# Altium schematic symbol library Diode.SchLib: 50 symbols
Pins are listed as number, name and electrical type; pins without a type are passive.

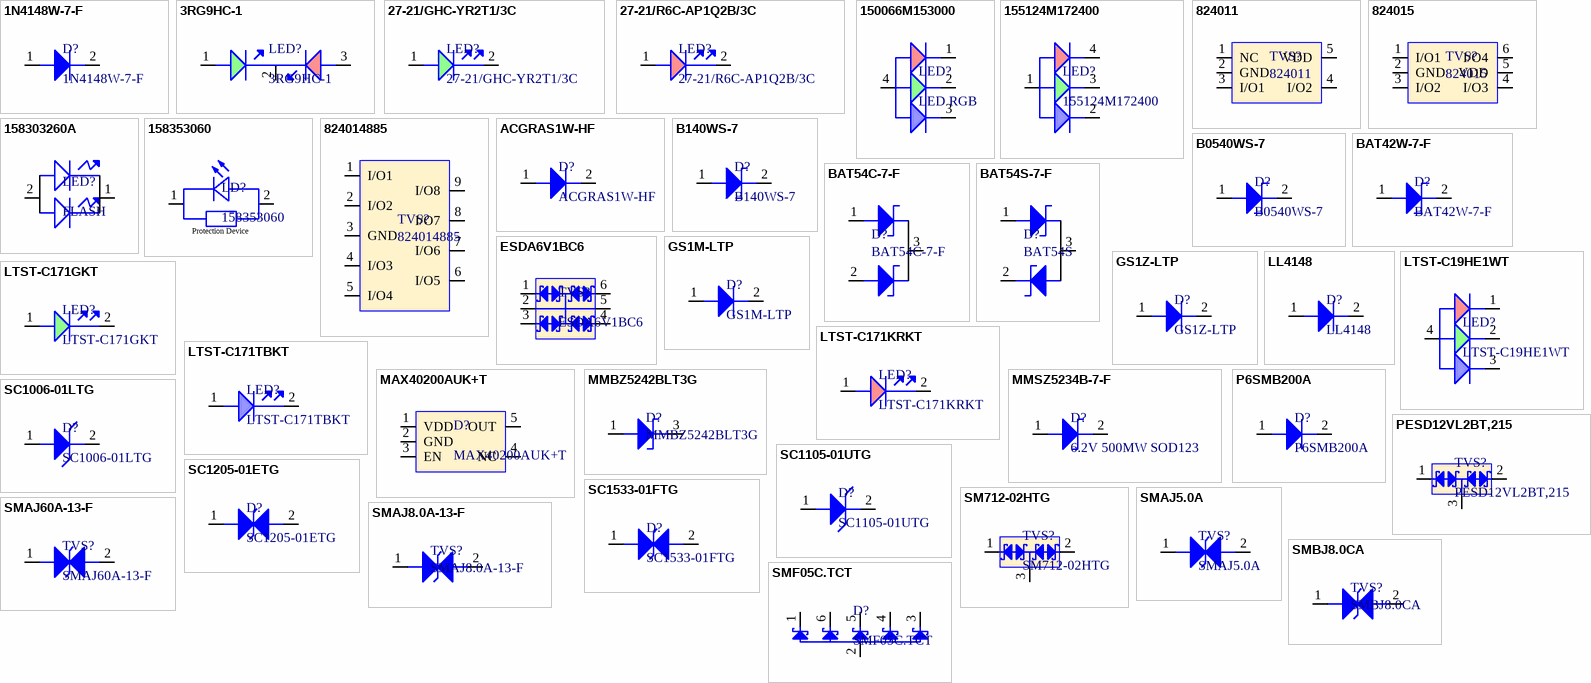
[diagram p0: symbols 1N4148W-7-F to SMF05C.TCT]

## 1N4148W-7-F
designator D?
Small Signal Diode, Single, 100 V, 300 Ma, 1.25 V, 4 Ns, 2 A Rohs Compliant: Yes; Manufacturer: Diodes; Purpose Of Usage: BASIC; Supplier 1: Digi-Key; Manufacturer Part Number: 1N4148W-7-F; RoHS: YES; Mount: SMD; Min Operating Temperature: -65°C; Max Operating Temperature: 150°C; Element Configuration: Single; Supplier Part Number 1: 1N4148W-FDIDKR-ND; Category: DIODE; Case/Package: SOT-123; Sub-Category: FAST DIODE; Stock ID: ??
footprint SOD123
pins: 1 A, 2 K

## 3RG9HC-1
designator LED?
LED 3MM RED, GREEN R:30mcd, G:60mcd 40°; Manufacturer: STRONG BASE; Purpose Of Usage: BASIC; Category: DIODE; Supplier 1: Özdisan; Supplier Part Number 1: 3RG9HC-1; Case/Package: THT; Mount: SMD; Sub-Category: LED; Stock ID: ??
footprint 3RG9HC-1
pins: 1, 2, 3

## 27-21/GHC-YR2T1/3C
designator LED?
LED GREEN RIGHT ANGLE CLEAR CHIP SMD; Manufacturer: Everlight Electronics Co Ltd; Purpose Of Usage: BASIC; Supplier 1: Digi-Key; Supplier Part Number 1: 27-21/GHC-YR2T1/3C-ND; Manufacturer Part Number: 27-21/GHC-YR2T1/3C; Mount: SMD; Case/Package: 0603; Category: DIODE; Sub-Category: LED; Stock ID: ??
footprint 0603_GREEN
pins: 1, 2

## 27-21/R6C-AP1Q2B/3C
designator LED?
LED RED RIGHT ANGLE CLEAR CHIP SMD; Manufacturer: Everlight Electronics Co Ltd; Purpose Of Usage: BASIC; Supplier 1: Digi-Key; Manufacturer Part Number: 27-21/R6C-AP1Q2B/3C; Mount: SMD; Case/Package: 0603; Category: DIODE; Sub-Category: LED; Stock ID: ??
footprint 0603_RED
pins: 1, 2

## 150066M153000
designator LED?, comment LED RGB
Led, Red/grn/blue, 285/900/180Mcd, 0606 Rohs Compliant: Yes; Manufacturer: Wurth Electronics; Manufacturer Part Number: 150066M153000; Color: Blue,Green,Red; Element Configuration: Common Anode; Purpose Of Usage: BASIC; Supplier 1: Digi-Key; RoHS: YES; Category: DIODE; Case/Package: 0606; Supplier Part Number 1: 732-11390-2-ND; Mount: SMD; Stock ID: ??; Sub-Category: LED; Local Supplier: WURTH; Price 10K: 0.084
footprint WL-SFCD_0606 (SMD Full-color Chip LED Diffused, body 1.6x1.6mm)
pins: 1, 2, 3, 4

## 155124M172400
designator LED?
Wl-sfsw SMT Full-color Side View; Manufacturer: Wurth Electronics; Color: Blue,Green,Red; Purpose Of Usage: BASIC; Supplier 1: Digi-Key; Manufacturer Part Number: 155124M172400; RoHS: YES; Category: DIODE; Supplier Part Number 1: 732-155124M172400TR-ND; Case/Package: 1204; Mount: SMD; Stock ID: ??; Sub-Category: LED; Local Supplier: WURTH; Price 10K: 0.084
footprint WL-SFSW_1204_155124M172400 (SMD Full-color Side view Waterclear, body 3.20 x 1.50mm)
pins: 1, 2, 3, 4

## 824011
designator TVS?
WURTH ELEKTRONIK - 824011 - TVS Diode, 82401 Series, Bidirectional, 5 V, 13 V, SOT-23, 5 Pins; Manufacturer: Wurth Electronics; Direction: UNI; Clamping Voltage: 8.5V; Purpose Of Usage: BASIC; Supplier 1: Digi-Key; Supplier Part Number 1: 732-4465-1-ND; Manufacturer Part Number: 824011; RoHS: YES; Mount: SMD; Case/Package: SOT-23-5; Min Operating Temperature: -55°C; Max Operating Temperature: 125°C; Category: DIODE; Sub-Category: TVS; Stock ID: ??
footprint WE-TVS_SOT23-5L (TVS Diode, package SOT23-5L)
pins: 1 NC, 2 GND, 3 I/O1, 4 I/O2, 5 VDD

## 824015
designator TVS?
WURTH ELEKTRONIK - 824015 - TVS Diode, 82401 Series, Bidirectional, 5 V, 13 V, SOT-23, 6 Pins; Manufacturer: Wurth Electronics; Direction: UNI; Clamping Voltage: 7.8V; Purpose Of Usage: BASIC; Supplier 1: Digi-Key; Supplier Part Number 1: 732-4467-1-ND; Manufacturer Part Number: 824015; RoHS: YES; Mount: SMD; Case/Package: SOT-23-6; Min Operating Temperature: -55°C; Max Operating Temperature: 125°C; Category: DIODE; Sub-Category: TVS; Stock ID: ??
footprint SOT-23-6
pins: 1 I/O1, 2 GND, 3 I/O2, 4 I/O3, 5 VDD, 6 I/O4

## 158303260A
designator LED?, comment FLASH
Led, Hb, Cool White, 6000K, 36Lm Rohs Compliant: Yes; Manufacturer: Wurth Electronics; Manufacturer Part Number: 158303260A; Purpose Of Usage: BASIC; Supplier 1: Digi-Key; RoHS: YES; Supplier Part Number 1: 732-158303260ADKR-ND; Category: DIODE; Color: White; Mount: SMD; Stock ID: ??; Sub-Category: LED
footprint WL-SWTP_3030_L3W3H0.67 (SMD White Top view PLCC, body 3x3mm)
pins: 1, 2

## 158353060
designator LD?
High Brightness Led, Wl-Swtc Series, White, 6000 K, 121 Lm, 350 Ma, 700 Ma Rohs Compliant: Yes; Manufacturer: Wurth Electronics; Purpose Of Usage: BASIC; Supplier 1: Digi-Key; Manufacturer Part Number: 158353060; RoHS: YES; Case/Package: SMD/SMT; Color: White; Supplier Part Number 1: 732-5657-1-ND; Category: DIODE; Mount: SMD; Stock ID: ??; Sub-Category: LED
footprint WL-SWTC_3535 (SMD White Top view Ceramic LED, body 3.4x3.4mm)
pins: 1 K, 2 A
text: Protection Device

## 824014885
designator TVS?
TVS DIODE 5V 10.5V DFN3810-9; Manufacturer: Wurth Electronics; Purpose Of Usage: BASIC; Supplier 1: Digi-Key; Supplier Part Number 1: 732-11797-1-ND; Manufacturer Part Number: 824014885; RoHS: NO; Category: DIODE; Case/Package: DFN3810-9L; Mount: SMD; Sub-Category: TVS; Stock ID: ??
footprint WE-TVS_DFN3810-9L (TVS Diode, package DFN3810-9L)
pins: 1 I/O1, 2 I/O2, 3 GND, 4 I/O3, 5 I/O4, 6 I/O5, 7 I/O6, 8 I/O7, 9 I/O8

## ACGRAS1W-HF
designator D?
DIODE GEN PURP 1.6KV 1A DO214AC; Manufacturer: Comchip; Purpose Of Usage: BASIC; Supplier 1: Digi-Key; Supplier Part Number 1: 641-1882-1-ND; Manufacturer Part Number: ACGRAS1W-HF; RoHS: NO; Category: DIODE; Case/Package: SMA; Mount: SMD; Sub-Category: RECTIFIER; Stock ID: ??
footprint SMA/DO-214AC
pins: 1, 2

## B140WS-7
designator D?
VR=40V IF=1A 125pF P=235mW; Manufacturer: Diodes; Element Configuration: Single; Purpose Of Usage: BASIC; Supplier 1: Digi-Key; Manufacturer Part Number: B140WS-7; RoHS: YES; Category: DIODE; Min Operating Temperature: -40°C; Max Operating Temperature: 125°C; Supplier Part Number 1: B140WS-7DITR-ND; Case/Package: SOD-323; Mount: SMD; Stock ID: ??; Sub-Category: SCHOTTKY
footprint SOD323
pins: 1 A, 2 K

## B0540WS-7
designator D?
VR=40V IF=500mA 125pF P=235mW; Manufacturer: Diodes; Element Configuration: Single; Purpose Of Usage: BASIC; Supplier 1: Digi-Key; Manufacturer Part Number: B0540WS-7; RoHS: YES; Category: DIODE; Min Operating Temperature: -40°C; Max Operating Temperature: 125°C; Supplier Part Number 1: B0540WSDITR-ND; Case/Package: SOD-323; Mount: SMD; Stock ID: ??; Sub-Category: SCHOTTKY
footprint SOD323
pins: 1 A, 2 K

## BAT42W-7-F
designator D?
BAT42W Series 30 V 0.2 A Surface Mount Schottky Barrier Diode - SOD-123; Manufacturer: Diodes; Element Configuration: Single; Purpose Of Usage: BASIC; Supplier 1: Digi-Key; Manufacturer Part Number: BAT42W-7-F; RoHS: YES; Mount: SMD; Min Operating Temperature: -55°C; Max Operating Temperature: 125°C; Category: DIODE; Supplier Part Number 1: BAT42W-FDICT-ND; Case/Package: SMA; Sub-Category: SCHOTTKY; Stock ID: ??
footprint SOD123
pins: 1 A, 2 K

## BAT54C-7-F
designator D?
Diodes Inc BAT54C-7-F, Dual SMT Schottky Switching Diode, Common Cathode, 30V 200mA, 5ns, 3-Pin SOT-23; Purpose Of Usage: BASIC; Supplier 1: Digi-Key; Supplier Part Number 1: BAT54C-FDICT-ND; Manufacturer: Diodes; Manufacturer Part Number: BAT54C-7-F; RoHS: YES; Mount: SMD; Case/Package: SOT-23-3; Min Operating Temperature: -65°C; Max Operating Temperature: 150°C; Element Configuration: Common Cathode; Category: DIODE; Sub-Category: SCHOTTKY; Stock ID: ??
footprint SOT23-3 (SOT23, 3-Leads, Body 2.92x2.51mm, Pitch 0.95mm, IPC Medium Density)
pins: 1 A, 2 K, 3 K

## BAT54S-7-F
designator D?, comment BAT54S
DIODE ARRAY SCHOTTKY 30V SOT23-3; Manufacturer: Diodes; Manufacturer Part Number: BAT54S-7-F; Purpose Of Usage: BASIC; Supplier 1: Digi-Key; RoHS: YES; Mount: SMD; Case/Package: SOT-23-3; Min Operating Temperature: -65°C; Max Operating Temperature: 150°C; Category: DIODE; Supplier Part Number 1: BAT54S-FDICT-ND; Sub-Category: SCHOTTKY; Stock ID: ??
footprint SOT23-3 (SOT23, 3-Leads, Body 2.92x2.51mm, Pitch 0.95mm, IPC Medium Density)
pins: 1 A, 2 K, 3 K

## ESDA6V1BC6
designator TVS?
TVS DIODE 5V SOT23-6; Manufacturer: STMicroelectronics; Direction: BI; Clamping Voltage: 11.35V; Purpose Of Usage: BASIC; Supplier 1: Digi-Key; Supplier Part Number 1: 497-6635-1-ND; Manufacturer Part Number: ESDA6V1BC6; RoHS: YES; Mount: SMD; Case/Package: SOT-23-6; Min Operating Temperature: -40°C; Max Operating Temperature: 125°C; Category: DIODE; Sub-Category: TVS; Stock ID: ??
footprint SOT-23-6
pins: 1, 2, 3, 4, 5, 6

## GS1M-LTP
designator D?
DIODE GEN PURP 1KV 1A DO214AC; Manufacturer: MCC; Element Configuration: Single; Purpose Of Usage: BASIC; Supplier 1: Digi-Key; Supplier Part Number 1: GS1M-LTPMSCT-ND; Manufacturer Part Number: GS1M-LTP; RoHS: YES; Mount: SMD; Min Operating Temperature: -55°C; Max Operating Temperature: 150°C; Category: DIODE; Case/Package: SMA; Sub-Category: RECTIFIER; Stock ID: ??
footprint SMA/DO-214AC
pins: 1 A, 2 K

## GS1Z-LTP
designator D?
DIODE GEN PURP 2KV 1A DO214AC; Manufacturer: MCC; Purpose Of Usage: BASIC; Supplier 1: Digi-Key; Manufacturer Part Number: GS1Z-LTP; RoHS: NO; Supplier Part Number 1: GS1Z-LTPCT-ND; Category: DIODE; Case/Package: SMA; Mount: SMD; Sub-Category: RECTIFIER; Stock ID: ??
footprint SMA/DO-214AC
pins: 1 A, 2 K

## LL4148
designator D?
DIODE GEN PURP 100V 200MA SOD80; Manufacturer: ON Semiconductor / Fairchild; Element Configuration: Single; Purpose Of Usage: BASIC; Supplier 1: Digi-Key; Supplier Part Number 1: LL4148FSCT-ND; Manufacturer Part Number: LL4148; RoHS: YES; Mount: SMD; Min Operating Temperature: -65°C; Max Operating Temperature: 175°C; Category: DIODE; Case/Package: SOD-80; Sub-Category: FAST DIODE; Stock ID: ??
footprint SOD80
pins: 1 A, 2 K

## LTST-C19HE1WT
designator LED?
LED, SMD, 1.6x1.5x0.4mm, Red/Green/Blue; Manufacturer: Vishay Lite-On; Color: Blue,Green,Red; Element Configuration: RGB; Purpose Of Usage: BASIC; Manufacturer Part Number: LTST-C19HE1WT; RoHS: YES; Category: DIODE; Case/Package: 0606; Min Operating Temperature: -20°C; Max Operating Temperature: 80°C; Local Supplier: OZDISAN; Mount: SMD; Price 10K: 0.09; Stock ID: ??; Sub-Category: LED; Supplier 1: Digi-Key; Supplier Part Number 1: 160-2162-1-ND
footprint WL-SFCD_0606 (SMD Full-color Chip LED Diffused, body 1.6x1.6mm)
pins: 1, 2, 3, 4

## LTST-C171GKT
designator LED?
LED GREEN CLEAR CHIP SMD; Manufacturer: Vishay Lite-On; Purpose Of Usage: BASIC; Supplier 1: Digi-Key; Supplier Part Number 1: 160-1423-1-ND; Manufacturer Part Number: LTST-C171GKT; RoHS: YES; Mount: SMD; Case/Package: 0805; Color: Green; Min Operating Temperature: -55°C; Max Operating Temperature: 85°C; Category: DIODE; Sub-Category: LED; Stock ID: ??
footprint 0805_green
pins: 1, 2

## LTST-C171KRKT
designator LED?
LED RED CLEAR SMD; Manufacturer: Vishay Lite-On; Purpose Of Usage: BASIC; Supplier 1: Digi-Key; Supplier Part Number 1: 160-1427-1-ND; Manufacturer Part Number: LTST-C171KRKT; RoHS: YES; Mount: SMD; Case/Package: 0805; Color: Red; Min Operating Temperature: -55°C; Max Operating Temperature: 85°C; Category: DIODE; Sub-Category: LED; Stock ID: ??
footprint 0805_RED
pins: 1, 2

## LTST-C171TBKT
designator LED?
LED BLUE CLEAR CHIP SMD; Manufacturer: Vishay Lite-On; Purpose Of Usage: BASIC; Supplier 1: Digi-Key; Supplier Part Number 1: 160-1645-1-ND; Manufacturer Part Number: LTST-C171TBKT; RoHS: YES; Mount: SMD; Case/Package: 0805; Color: Blue; Min Operating Temperature: -20°C; Max Operating Temperature: 80°C; Category: DIODE; Sub-Category: LED; Stock ID: ??
footprint 0805_blue
pins: 1, 2

## MAX40200AUK+T
designator D?
IC DIODE CURRENT SWITCH SOT23-5; Manufacturer: Maxim; Purpose Of Usage: BASIC; Supplier 1: Digi-Key; Manufacturer Part Number: MAX40200AUK+T; RoHS: YES; Mount: SMD; Case/Package: SOT-23-5; Min Operating Temperature: -40°C; Max Operating Temperature: 125°C; Supplier Part Number 1: MAX40200AUK+TCT-ND; Category: DIODE; Sub-Category: IDEAL DIODE; Stock ID: ??
footprint SOT-23-5
pins: 1 VDD, 2 GND, 3 EN, 4 NC, 5 OUT

## MMBZ5242BLT3G
designator D?
DIODE ZENER 12V 225MW SOD23-3; Manufacturer: ON Semiconductor; Element Configuration: Single; Purpose Of Usage: BASIC; Supplier 1: Digi-Key; Supplier Part Number 1: MMBZ5242BLT3GOSCT-ND; Manufacturer Part Number: MMBZ5242BLT3G; RoHS: YES; Case/Package: SOT-23-3; Min Operating Temperature: -65°C; Max Operating Temperature: 150°C; Category: DIODE; Mount: SMD; Sub-Category: ZENER; Stock ID: ??
footprint SOT23-3 (SOT23, 3-Leads, Body 2.92x2.51mm, Pitch 0.95mm, IPC Medium Density)
pins: 1 A, 3 K

## MMSZ5234B-7-F
designator D?, comment 6.2V 500MW SOD123
DIODE ZENER 6.2V 500MW SOD123; Manufacturer: Diodes; Manufacturer Part Number: MMSZ5234B-7-F; Element Configuration: Single; Purpose Of Usage: BASIC; Supplier 1: Digi-Key; Supplier Part Number 1: MMSZ5234B-FDICT-ND; RoHS: YES; Mount: SMD; Case/Package: SOD-123-2; Min Operating Temperature: -65°C; Max Operating Temperature: 150°C; Category: DIODE; Sub-Category: ZENER; Stock ID: ??
footprint SOD123
pins: 1 A, 2 K

## P6SMB200A
designator D?
TVS DIODE 171VWM 274VC SMD; Manufacturer: Littelfuse; Direction: UNI; Clamping Voltage: 274V; Purpose Of Usage: BASIC; Supplier 1: Digi-Key; Supplier Part Number 1: P6SMB200ALFCT-ND; Manufacturer Part Number: P6SMB200A; RoHS: YES; Mount: SMD; Case/Package: SMB; Min Operating Temperature: -65°C; Max Operating Temperature: 150°C; Category: DIODE; Sub-Category: TVS; Stock ID: ??
footprint SMB/DO-214AA
pins: 1 A, 2 K

## PESD12VL2BT,215
designator TVS?
TVS DIODE 12V 37V SOT23; Manufacturer: Nexperia; Purpose Of Usage: BASIC; Supplier 1: Digi-Key; Manufacturer Part Number: PESD12VL2BT,215; RoHS: YES; Supplier Part Number 1: 1727-3809-1-ND; Category: DIODE; Case/Package: SOT-23-3; Mount: SMD; Sub-Category: TVS; Stock ID: ??
footprint SOT23-3 (SOT23, 3-Leads, Body 2.92x2.51mm, Pitch 0.95mm, IPC Medium Density)
pins: 1, 2, 3

## SC1006-01LTG
designator D?
TVS DIODE Vrrm : 6V; Manufacturer: Littelfuse; Clamping Voltage: 7V; Direction: UNI; Element Configuration: Single; Purpose Of Usage: BASIC; Supplier 1: Digi-Key; Manufacturer Part Number: SC1006-01LTG; RoHS: NO; Supplier Part Number 1: 18-SC1006-01LTGTR-ND; Case/Package: SOT-523; Category: DIODE; Max Operating Temperature: 125°C; Min Operating Temperature: -40°C; Mount: SMD; Stock ID: ??; Sub-Category: TVS; Local Supplier: FUTURE; Price 10K: 0.037
footprint SOD523
pins: 1 A, 2 K

## SC1105-01UTG
designator D?
Tvs Diode, Unidir, 5V, Dfn Rohs Compliant: Yes; Manufacturer: Littelfuse; Direction: UNI; Purpose Of Usage: BASIC; Supplier 1: Digi-Key; Manufacturer Part Number: SC1105-01UTG; Category: DIODE; Supplier Part Number 1: 18-SC1105-01UTGDKR-ND; Case/Package: uDFN1610; Clamping Voltage: 5V; Max Operating Temperature: 125°C; Min Operating Temperature: -40°C; Mount: SMD; Stock ID: ??; Sub-Category: TVS; Local Supplier: FUTURE
footprint uDFN1610
pins: 1 A, 2 K

## SC1205-01ETG
designator D?
Tvs Diode 5V 7A SOD882; Manufacturer: Littelfuse; Direction: BI; Element Configuration: Single; Purpose Of Usage: BASIC; Supplier 1: Digi-Key; Manufacturer Part Number: SC1205-01ETG; RoHS: NO; Category: DIODE; Supplier Part Number 1: 18-SC1205-01ETGTR-ND; Case/Package: SOD-882; Clamping Voltage: 5V; Max Operating Temperature: 125°C; Min Operating Temperature: -40°C; Mount: SMD; Stock ID: ??; Sub-Category: TVS; Local Supplier: FUTURE; Price 10K: 0.0925
footprint SOD882
pins: 1 A, 2 K

## SC1533-01FTG
designator D?
11.5V (Typ) Clamp 15A (8/20µs) Ipp Tvs Diode Surface Mount SOD-323; Manufacturer: Littelfuse; Direction: BI; Element Configuration: Single; Purpose Of Usage: BASIC; Supplier 1: Digi-Key; Manufacturer Part Number: SC1533-01FTG; RoHS: NO; Category: DIODE; Supplier Part Number 1: 18-SC1533-01FTGTR-ND; Case/Package: SOD-323; Max Operating Temperature: 125°C; Min Operating Temperature: -40°C; Mount: SMD; Stock ID: ??; Sub-Category: TVS; Local Supplier: FUTURE; Price 10K: 0.046183
footprint SOD323
pins: 1 A, 2 K

## SM712-02HTG
designator TVS?
ESD Suppressor TVS 12V Automotive 3-Pin SOT-23 T/R; Manufacturer: Littelfuse; Clamping Voltage: 31V; Direction: BI; Element Configuration: Dual; Purpose Of Usage: BASIC; Supplier 1: Digi-Key; Supplier Part Number 1: F6450CT-ND; Manufacturer Part Number: SM712-02HTG; RoHS: YES; Mount: SMD; Case/Package: SOT-23-3; Min Operating Temperature: -40°C; Max Operating Temperature: 125°C; Category: DIODE; Sub-Category: TVS; Stock ID: ??
footprint SOT23-3 (SOT23, 3-Leads, Body 2.92x2.51mm, Pitch 0.95mm, IPC Medium Density)
pins: 1, 2, 3

## SMAJ5.0A
designator TVS?
SMAJ Series 9.2 V 400 W Surface Mount Uni-Directional TVS Diode - DO-214AC; Manufacturer: Littelfuse; Direction: Unidirectional; Clamping Voltage: 9.2V; Breakdown Voltage: 6.4V; Element Configuration: Single; Purpose Of Usage: BASIC; Manufacturer Part Number: SMAJ5.0A; RoHS: Yes; Category: DIODE; Case/Package: DO-214AC; Min Operating Temperature: -65°C; Max Operating Temperature: 150°C; Clamping Voltage-Max: 9.2V; Local Supplier: FUTURE; Mount: SMD; Price 10K: 0.1; Stock ID: ??; Sub-Category: TVS; Supplier 1: Digi-Key; Supplier Part Number 1: SMAJ5.0ALFCT-ND
footprint SMA/DO-214AC
pins: 1 A, 2 K

## SMAJ8.0A-13-F
designator TVS?
TVS DIODE 8V 13.6V SMA; Manufacturer: Diodes; Element Configuration: Single; Direction: UNI; Purpose Of Usage: BASIC; Supplier 1: Digi-Key; Supplier Part Number 1: SMAJ8.0A-13-FDICT-ND; Manufacturer Part Number: SMAJ8.0A-13-F; RoHS: YES; Mount: SMD; Case/Package: SMA; Min Operating Temperature: -55°C; Max Operating Temperature: 150°C; Clamping Voltage: 13.6V; Category: DIODE; Sub-Category: TVS; Stock ID: ??
footprint SMA/DO-214AC_TVS
pins: 1 A, 2 K

## SMAJ60A-13-F
designator TVS?
DIODES INC. - SMAJ60A-13-F - TVS Diode, SMAJ Series, Unidirectional, 60 V, 96.8 V, DO-214AC, 2 Pins; Purpose Of Usage: BASIC; Supplier 1: Digi-Key; Manufacturer: Diodes; Manufacturer Part Number: SMAJ60A-13-F; RoHS: YES; Supplier Part Number 1: SMAJ60A-FDICT-ND; Category: DIODE; Case/Package: SMA; Mount: SMD; Sub-Category: TVS; Stock ID: ??
footprint SMA/DO-214AC_TVS
pins: 1 A, 2 K

## SMBJ8.0CA
designator TVS?
600W, 8V, DO-214AA; Manufacturer: Littelfuse; Clamping Voltage: 13.6V; Direction: BI; Purpose Of Usage: BASIC; Supplier 1: Digi-Key; Supplier Part Number 1: SMBJ8.0CALFCT-ND; Manufacturer Part Number: SMBJ8.0CA; RoHS: YES; Mount: SMD; Case/Package: SMB; Min Operating Temperature: -65°C; Max Operating Temperature: 150°C; Category: DIODE; Sub-Category: TVS; Stock ID: ??
footprint SMB/DO-214AA
pins: 1 A, 2 K

## SMF05C.TCT
designator D?
ESD Suppressor Diode TVS Uni-Dir 5V 6-Pin SC-70 T/R / TVS DIODE 5VWM 12.5VC SC70-6; Manufacturer: Semtech; Direction: Unidirectional; Clamping Voltage: 12.5V; Element Configuration: Five; Purpose Of Usage: BASIC; Supplier 1: Digi-Key; Manufacturer Part Number: SMF05C.TCT; RoHS: YES; Category: DIODE; Case/Package: SC; Min Operating Temperature: -55°C; Max Operating Temperature: 125°C; Clamping Voltage-Max: 12.5V; Supplier Part Number 1: SMF05CTR-ND; Mount: SMD; Stock ID: ??; Sub-Category: TVS
footprint SC70-6/SOT363
pins: 1, 2, 3, 4, 5, 6

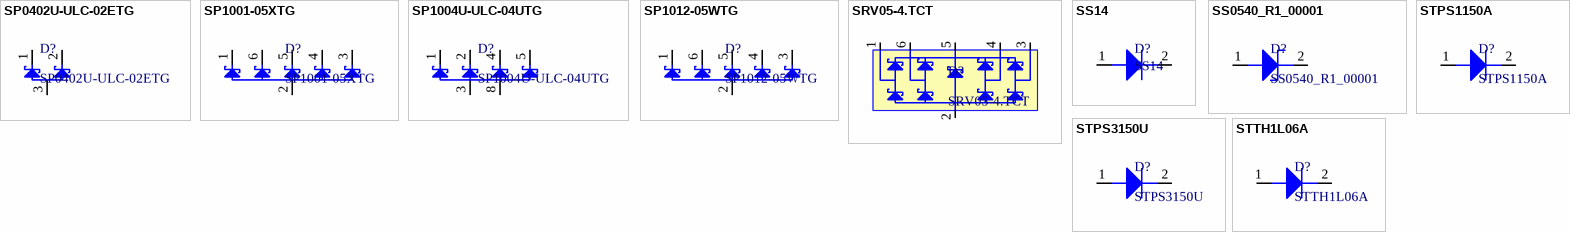
[diagram p1: symbols SP0402U-ULC-02ETG to STTH1L06A]

## SP0402U-ULC-02ETG
designator D?
2 Ch 20Kv 5V Tvs Diode Array 0402 Dfn / Tr Rohs Compliant: Yes; Manufacturer: Littelfuse; Direction: UNI; Element Configuration: 2; Purpose Of Usage: BASIC; Supplier 1: Digi-Key; Manufacturer Part Number: SP0402U-ULC-02ETG; RoHS: YES; Category: DIODE; Supplier Part Number 1: 18-SP0402U-ULC-02ETGTR-ND; Case/Package: 0402-DFN; Mount: SMD; Stock ID: ??; Sub-Category: TVS; Local Supplier: FUTURE; Price 10K: 0.0773
footprint SP0402UULC02ETG
pins: 1, 2, 3

## SP1001-05XTG
designator D?
SP1001 Series 7 V 5 Channel Surface Mount Uni-Directional TVS Diode - SOT-563; Manufacturer: Littelfuse; Direction: UNI; Clamping Voltage: 13V; Element Configuration: Five; Purpose Of Usage: BASIC; Supplier 1: Digi-Key; Manufacturer Part Number: SP1001-05XTG; RoHS: YES; Category: DIODE; Case/Package: SOT-563; Min Operating Temperature: -40°C; Max Operating Temperature: 85°C; Supplier Part Number 1: F2898TR-ND; Mount: SMD; Stock ID: ??; Sub-Category: TVS; Local Supplier: FUTURE
footprint SOT-563
pins: 1, 2, 3, 4, 5, 6

## SP1004U-ULC-04UTG
designator D?
4 Ch 20Kv 5V Tvs Diode Array 1004 Dfn / Tr Rohs Compliant: Yes; Manufacturer: Littelfuse; Direction: UNI; Element Configuration: Four; Purpose Of Usage: BASIC; Supplier 1: Digi-Key; Manufacturer Part Number: SP1004U-ULC-04UTG; RoHS: YES; Category: DIODE; Supplier Part Number 1: F9749TR-ND; Case/Package: 0402-DFN; Stock ID: ??; Sub-Category: TVS; Mount: SMD; Local Supplier: FUTURE; Price 10K: 0.225
footprint SP1004UULC04UTG
pins: 1, 2, 3, 4, 5, 8

## SP1012-05WTG
designator D?
SP1012 Series - 6.5pF, 15kV Bidirectional TVS Array, 0402WLCSP, RoHS; Manufacturer: Littelfuse; Clamping Voltage: 12.3V; Direction: BI; Element Configuration: Five; Purpose Of Usage: BASIC; Supplier 1: Digi-Key; Manufacturer Part Number: SP1012-05WTG; RoHS: YES; Category: DIODE; Min Operating Temperature: -40°C; Max Operating Temperature: 125°C; Supplier Part Number 1: F6581DKR-ND; Case/Package: WSON; Stock ID: ??; Sub-Category: TVS; Mount: SMD; Local Supplier: FUTURE
footprint WSON6
pins: 1, 2, 3, 4, 5, 6

## SRV05-4.TCT
designator D?
SRV Series 17.5 V 3 pF SMT RailClamp® Low Capacitance TVS Diode Array SOT-23-6; Manufacturer: Semtech; Direction: Unidirectional; Clamping Voltage: 17.5V; Breakdown Voltage: 6V; Element Configuration: Five; Purpose Of Usage: BASIC; Supplier 1: Digi-Key; Manufacturer Part Number: SRV05-4.TCT; RoHS: YES; Category: DIODE; Case/Package: SOT-23; Min Operating Temperature: -55°C; Max Operating Temperature: 125°C; Clamping Voltage-Max: 17.5V; Supplier Part Number 1: SRV05-4TR-ND; Mount: SMD; Stock ID: ??; Sub-Category: TVS
footprint SOT-23-6
pins: 1, 2, 3, 4, 5, 6

## SS14
designator D?
SS14 - DIODE, SCHOTTKY, 1A, 40V, DO-214AC-2; Manufacturer: ON Semiconductor / Fairchild; Element Configuration: Single; Purpose Of Usage: BASIC; Supplier 1: Digi-Key; Manufacturer Part Number: SS14; RoHS: YES; Mount: SMD; Case/Package: SMA; Min Operating Temperature: -65°C; Max Operating Temperature: 125°C; Supplier Part Number 1: SS14CT-ND; Category: DIODE; Sub-Category: SCHOTTKY; Stock ID: ??
footprint SMA/DO-214AC
pins: 1 A, 2 K

## SS0540_R1_00001
designator D?
Diode Schottky 40V 0.5A 2-Pin SOD-123 T/R; Manufacturer: Pan Jit; Element Configuration: Single; Purpose Of Usage: BASIC; Supplier 1: Digi-Key; Manufacturer Part Number: SS0540_R1_00001; RoHS: YES; Mount: SMD; Min Operating Temperature: -55°C; Max Operating Temperature: 125°C; Category: DIODE; Supplier Part Number 1: 3757-SS0540_R1_00001TR-ND; Case/Package: SOT-123; Sub-Category: SCHOTTKY; Stock ID: ??
footprint SOD123
pins: 1 A, 2 K

## STPS1150A
designator D?
DIODE SCHOTTKY 150V 1A SMA; Manufacturer: STMicroelectronics; Element Configuration: Single; Purpose Of Usage: BASIC; Supplier 1: Digi-Key; Supplier Part Number 1: 497-7545-1-ND; Manufacturer Part Number: STPS1150A; RoHS: YES; Mount: SMD; Case/Package: SMA; Min Operating Temperature: -65°C; Max Operating Temperature: 175°C; Category: DIODE; Sub-Category: SCHOTTKY; Stock ID: ??
footprint SMA/DO-214AC
pins: 1 A, 2 K

## STPS3150U
designator D?
DIODE SCHOTTKY 150V 3A SMB; Manufacturer: STMicroelectronics; Element Configuration: Single; Purpose Of Usage: BASIC; Supplier 1: Digi-Key; Supplier Part Number 1: 497-6583-1-ND; Manufacturer Part Number: STPS3150U; RoHS: YES; Mount: SMD; Case/Package: SMB; Min Operating Temperature: -65°C; Max Operating Temperature: 175°C; Category: DIODE; Sub-Category: SCHOTTKY; Stock ID: ??
footprint SMB/DO-214AA
pins: 1 A, 2 K

## STTH1L06A
designator D?
DIODE GEN PURP 600V 1A SMA; Manufacturer: STMicroelectronics; Element Configuration: Single; Purpose Of Usage: BASIC; Supplier 1: Digi-Key; Supplier Part Number 1: 497-3241-1-ND; Manufacturer Part Number: STTH1L06A; RoHS: YES; Mount: SMD; Case/Package: SMA; Min Operating Temperature: -65°C; Max Operating Temperature: 175°C; Category: DIODE; Sub-Category: RECTIFIER; Stock ID: ??
footprint SMA/DO-214AC
pins: 1  A, 2 K